# EAGLE library part TLP3910_C20-TP,E (library TLP3910_C20-TP_E)
Photodiode Output Optocouplers Photovoltaic Coupler; High Voc; SO6L; RoHS Source: Datasheet <https://www.mouser.jp/datasheet/2/408/TLP3910_datasheet_en_20210302-2321212.pdf>
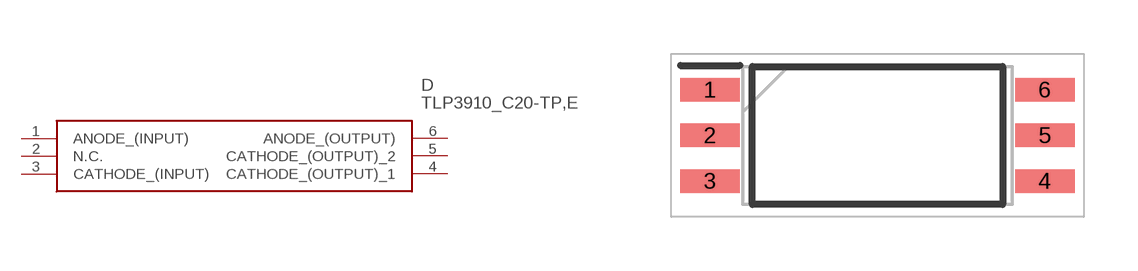
[diagram p0: symbol with the pads of SOIC127P1000X220-6N; footprint SOIC127P1000X220-6N]

Designator prefix D

## TLP3910_C20-TP,E (Description: Photodiode Output Optocouplers Photovoltaic Coupler; High Voc; SO6L; RoHS; Height: 2.2mm; Manufacturer_Name: Toshiba; Manufacturer_Part_Number: TLP3910(C20-TP,E; Mouser_Part_Number: 757-TLP3910C20-TPE; Mouser_Price-Stock: https://www.mouser.co.uk/ProductDetail/Toshiba/TLP3910C20-TPE?qs=TuK3vfAjtkUvVtweYOqjVw%3D%3D)  [SOIC127P1000X220-6N]
1  ANODE_(INPUT)
2  N.C.  nc
3  CATHODE_(INPUT)
4  CATHODE_(OUTPUT)_1
5  CATHODE_(OUTPUT)_2
6  ANODE_(OUTPUT)

## Footprint SOIC127P1000X220-6N (pad centres in mm)
11-4N1A
smd 1.65 x 0.65: 1 -4.65,1.27; 2 -4.65,0; 3 -4.65,-1.27; 4 4.65,-1.27; 5 4.65,0; 6 4.65,1.27